# EAGLE library part FLASH_FPGA (library robotter_connector)
HARTING
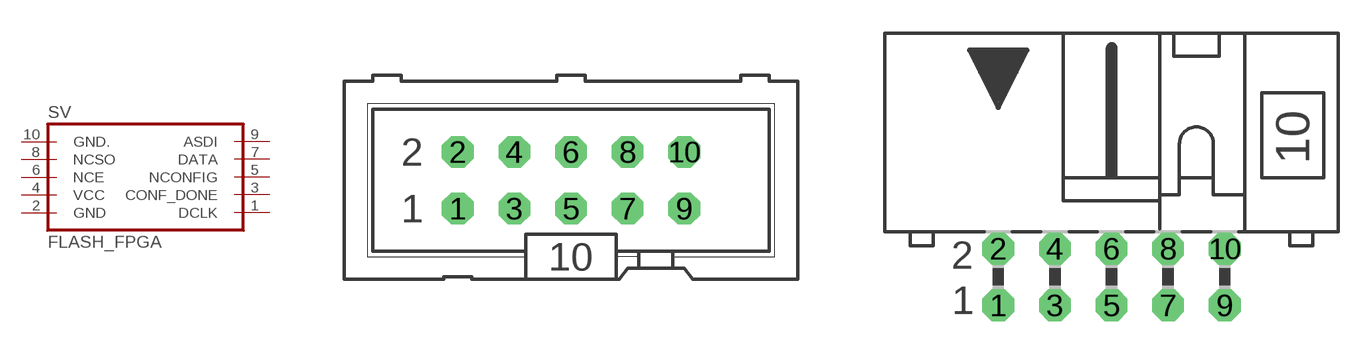
[diagram p7: symbol with the pads of ML10; footprints ML10, ML10L]

Designator prefix SV

## FLASH_FPGA  [ML10]
1  DCLK  pas
2  GND  pas
3  CONF_DONE  pas
4  VCC  pas
5  NCONFIG  pas
6  NCE  pas
7  DATA  pas
8  NCSO  pas
9  ASDI  pas
10  GND.  pas

## FLASH_FPGAL  [ML10L]
Pads as for ML10

## Footprint ML10 (pad centres in mm)
HARTING
drill 0.914 octagon: 1 -5.08,-1.27; 2 -5.08,1.27; 3 -2.54,-1.27; 4 -2.54,1.27; 5 0,-1.27; 6 0,1.27; 7 2.54,-1.27; 8 2.54,1.27; 9 5.08,-1.27; 10 5.08,1.27

## Footprint ML10L (pad centres in mm)
HARTING
drill 0.914 octagon: 1 -5.08,-1.27; 2 -5.08,1.27; 3 -2.54,-1.27; 4 -2.54,1.27; 5 0,-1.27; 6 0,1.27; 7 2.54,-1.27; 8 2.54,1.27; 9 5.08,-1.27; 10 5.08,1.27